# Altium footprint library PCB_ConnectorFFC.PcbLib: 4 footprints
Each footprint in its own frame and in the unit in brackets; x right, y up, seen from the top. Pads: shape width x height; smd on the part's side, far side on the other; paste and mask are expansions set on the pad; w line width, h text height; cw(c..) or ccw(c..) is an arc to the next point about the centre after c.
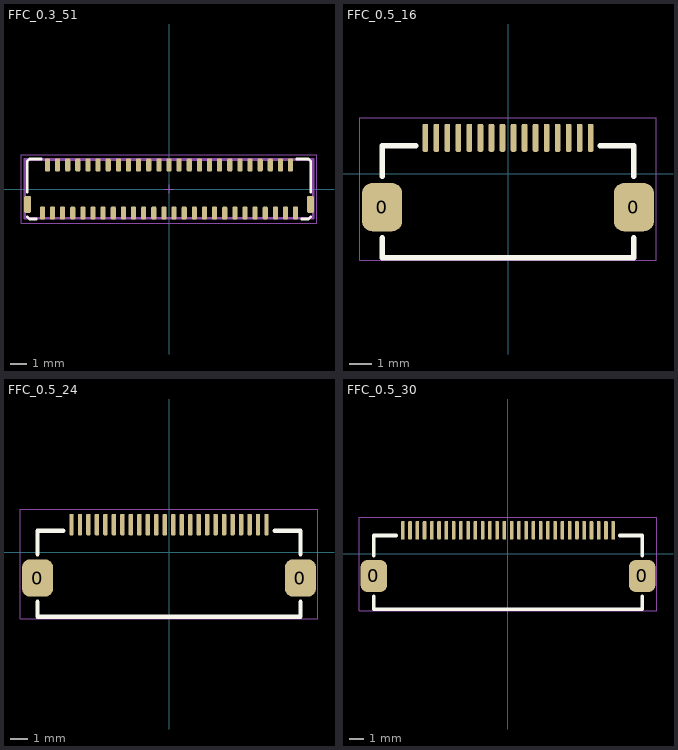
[diagram p0: the footprints below, top view; thin cyan lines are the x and y axes]

## FFC_0.3_51 [mil]
height 78.74
pads (53):
  rrect50% 16x40 smd: 0(-329.73,-36) 0(329.73,-36)
  rrect50% 12x30 smd: 1(295.27,-56) 2(283.46,56) 3(271.65,-56) 4(259.84,56) 5(248.03,-56) 6(236.22,56) 7(224.41,-56) 8(212.6,56) 9(200.79,-56) 10(188.98,56) 11(177.16,-56) 12(165.35,56) 13(153.54,-56) 14(141.73,56) 15(129.92,-56.19) 16(118.11,56) 17(106.3,-56) 18(94.49,56) 19(82.68,-56) 20(70.87,56) 21(59.05,-56) 22(47.24,56) 23(35.43,-56) 24(23.62,56) 25(11.81,-56) 26(0,56) 27(-11.81,-56) 28(-23.62,56) 29(-35.43,-56) 30(-47.24,56) 31(-59.05,-56) 32(-70.87,56) 33(-82.68,-56) 34(-94.49,56) 35(-106.3,-56) 36(-118.11,56) 37(-129.92,-56) 38(-141.73,56) 39(-153.54,-56) 40(-165.35,56) 41(-177.16,-56) 42(-188.98,56) 43(-200.79,-56) 44(-212.6,56) 45(-224.41,-56) 46(-236.22,56) 47(-248.03,-56) 48(-259.84,56) 49(-271.65,-56) 50(-283.46,56) 51(-295.27,-56)
Top Overlay:
  lines w6: -330,-65 -325,-70 -310,-70 ; -330,-7 -330,64.72 ; -330,65 -325,70 -298,70 ; 298,70 325,70 330,65 ; 310,-70 325,-70 330,-65 ; 330,-7 330,64.72
Mechanical 13:
  lines w6: -336.6,-68.55 -336.6,68.85 336.62,68.85 336.62,-68.55 -336.6,-68.55
T-Component:
  lines w2: -10,0 10,0 ; 0,-10 0,10 ; -345,-80 -345,80 345,80 345,-80 -345,-80
3D body "10061122511420hlf.stp": height 35.43, standoff 0, extent -336.6,-68.55 336.62,68.85

## FFC_0.5_16 [mil]
height 78.74
pads (18):
  rrect50% 72x86 smd: 0(-225,-60) 0(225,-60)
  rrect50% 10x50 smd: 1(-147.64,64) 2(-127.95,64) 3(-108.27,64) 4(-88.58,64) 5(-68.9,64) 6(-49.21,64) 7(-29.53,64) 8(-9.84,64) 9(9.84,64) 10(29.53,64) 11(49.21,64) 12(68.9,64) 13(88.58,64) 14(108.27,64) 15(127.95,64) 16(147.64,64)
Top Overlay:
  lines w10: -225,-115 -225,-150 225,-150 225,-115 ; -225,-5 -225,50 -165,50 ; 165,50 225,50 225,-5
T-Component:
  lines w2: -265,-155 265,-155 265,100 -265,100 -265,-155
3D body "ffc_fpc_affc20-16-050-shb-t.stp": height 81.71, standoff -1.16, extent -265.75,-155.07 265.75,55

## FFC_0.5_24 [mm]
height 2
pads (26):
  rrect50% 1.829x2.184 smd: 0(-7.747,-1.524) 0(7.747,-1.524)
  rrect50% 0.254x1.27 smd: 1(-5.75,1.625) 2(-5.25,1.625) 3(-4.75,1.625) 4(-4.25,1.625) 5(-3.75,1.625) 6(-3.25,1.625) 7(-2.75,1.625) 8(-2.25,1.625) 9(-1.75,1.625) 10(-1.25,1.625) 11(-0.75,1.625) 12(-0.25,1.625) 13(0.25,1.625) 14(0.75,1.625) 15(1.25,1.625) 16(1.75,1.625) 17(2.25,1.625) 18(2.75,1.625) 19(3.25,1.625) 20(3.75,1.625) 21(4.25,1.625) 22(4.75,1.625) 23(5.25,1.625) 24(5.75,1.625)
Top Overlay:
  lines w0.254: -7.747,-2.921 -7.747,-3.81 7.747,-3.81 7.747,-2.921 ; -7.747,-0.127 -7.747,1.27 -6.223,1.27 ; 6.223,1.27 7.747,1.27 7.747,-0.127
T-Component:
  lines w0.051: -8.763,-3.937 -8.763,2.54 8.763,2.54 8.763,-3.937 -8.763,-3.937
3D body "ffc_fpc_affc20-24-050-shb-t.stp": height 2.08, standoff -0.03, extent -8.75,-3.929 8.75,1.407

## FFC_0.5_30 [mm]
height 2
pads (32):
  rrect50% 1.829x2.184 smd: 0(-9.247,-1.524) 0(9.247,-1.524)
  rrect50% 0.254x1.27 smd: 1(-7.25,1.625) 2(-6.75,1.625) 3(-6.25,1.625) 4(-5.75,1.625) 5(-5.25,1.625) 6(-4.75,1.625) 7(-4.25,1.625) 8(-3.75,1.625) 9(-3.25,1.625) 10(-2.75,1.625) 11(-2.25,1.625) 12(-1.75,1.625) 13(-1.25,1.625) 14(-0.75,1.625) 15(-0.25,1.625) 16(0.25,1.625) 17(0.75,1.625) 18(1.25,1.625) 19(1.75,1.625) 20(2.25,1.625) 21(2.75,1.625) 22(3.25,1.625) 23(3.75,1.625) 24(4.25,1.625) 25(4.75,1.625) 26(5.25,1.625) 27(5.75,1.625) 28(6.25,1.625) 29(6.75,1.625) 30(7.25,1.625)
Top Overlay:
  lines w0.254: -9.247,-2.921 -9.247,-3.81 9.247,-3.81 9.247,-2.921 ; -9.247,-0.127 -9.247,1.27 -7.723,1.27 ; 7.723,1.27 9.247,1.27 9.247,-0.127
T-Component:
  lines w0.051: -10.263,-3.937 10.263,-3.937 10.263,2.54 -10.263,2.54 -10.263,-3.937